# EAGLE library part SOLAR_CHARGER_DEVICE (library Solar Charger)
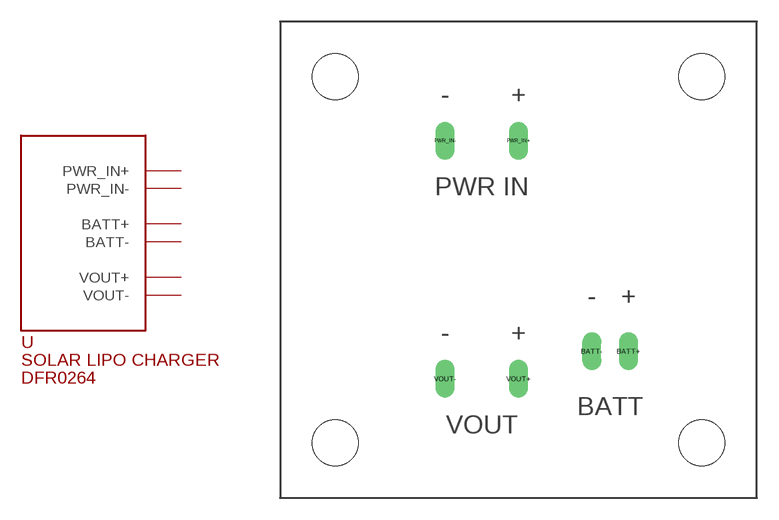
[diagram p0: symbol with the pads of SOLAR_CHARGER_PACKAGE; footprint SOLAR_CHARGER_PACKAGE]

Designator prefix -

## SOLAR_CHARGER_DEVICE  [SOLAR_CHARGER_PACKAGE]
BATT+  BATT+
BATT-  BATT-
PWR_IN+  PWR_IN+
PWR_IN-  PWR_IN-
VOUT+  VOUT+
VOUT-  VOUT-

## Footprint SOLAR_CHARGER_PACKAGE (pad centres in mm)
drill 0.8 long: BATT+ 24.13,10.16; BATT- 21.59,10.16; PWR_IN+ 16.51,24.765; PWR_IN- 11.43,24.765; VOUT+ 16.51,8.255; VOUT- 11.43,8.255
hole 3.2 at 3.81,3.81
hole 3.2 at 29.21,3.81
hole 3.2 at 29.21,29.21
hole 3.2 at 3.81,29.21